# Altium integrated library SSQ-110-03-X-S.IntLib: 1 symbol
Pins are listed as number, name and electrical type; pins without a type are passive.

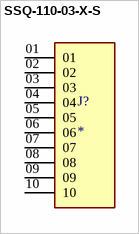
[diagram p0: symbol SSQ-110-03-X-S]

## SSQ-110-03-X-S
designator J?
10 Position Receptacle Connector 0.100 (2.54mm) Through Hole Gold; MF: Samtec Inc.; MP: SSQ-110-03-F-S; SnapEDA_Link: https://www.snapeda.com/parts/SSQ-110-03-F-S/Samtec+Inc./view-part/?ref=snap; Package: None; Value: *; Check_prices: https://www.snapeda.com/parts/SSQ-110-03-F-S/Samtec+Inc./view-part/?ref=eda
footprint SAMTEC_SSQ-110-03-X-S
pins: 01, 02, 03, 04, 05, 06, 07, 08, 09, 10